# Altium schematic symbol library EG1218.SchLib: 1 symbol
Pins are listed as number, name and electrical type; pins without a type are passive.

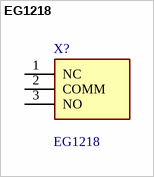
[diagram p0: symbol EG1218]

## EG1218
designator X?
SLIDE, 200mA, 30VDC SPDT, On-On Through Hole; Manufacturer_Name: E-Switch; Geometry.Height: 7.4mm; Manufacturer_Part_Number: EG1218; Mouser Part Number: 612-EG1218; Mouser Price/Stock: https://www.mouser.co.uk/ProductDetail/E-Switch/EG1218?qs=xDsBkp9LkocT0c8K%252B5e%2FgA%3D%3D; Arrow Part Number: *; Arrow Price/Stock: *; Datasheet Link: https://configured-product-images.s3.amazonaws.com/2D/specs/EG1218.pdf
footprint EG1218
pins: 1 NC, 2 COMM, 3 NO